# EAGLE library part RASPBERRY-HEADER (library raspberry-header)
PIN HEADER
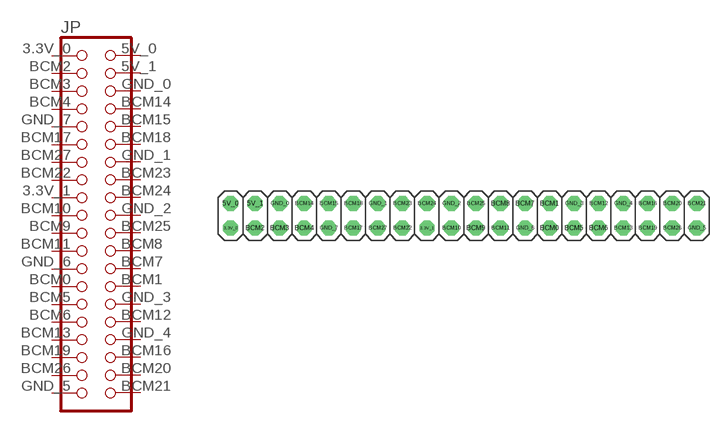
[diagram p0: symbol with the pads of RASPBERRY-HEADER; footprint RASPBERRY-HEADER]

Designator prefix JP

## RASPBERRY-HEADER  [RASPBERRY-HEADER]
3.3V_0  1_3V3  pas
3.3V_1  17_3V3  pas
5V_0  5V_1  pas
5V_1  4_5V5  pas
BCM0  27_BCM0_ID_SD  pas
BCM1  28_BCM1_ID_SC  pas
BCM2  3_BCM2_SDA  pas
BCM3  5_BCM3_SCL  pas
BCM4  7_BCM4_GPCLK0  pas
BCM5  29_BCM5  pas
BCM6  31_BCM6  pas
BCM7  26_BCM7_CE1  pas
BCM8  24_BCM8_CE0  pas
BCM9  21_BCM9_MISO  pas
BCM10  19_BCM10_MOSI  pas
BCM11  23_BCM11  pas
BCM12  32_BCM12_PWM0  pas
BCM13  33_BCM13_PWM1  pas
BCM14  8_BCM14_TXD  pas
BCM15  10_BCM15_RXD  pas
BCM16  36_BCM16  pas
BCM17  11_BCM17  pas
BCM18  12_BCM18_PWM0  pas
BCM19  35_BCM19_MISO  pas
BCM20  38_BCM20_MOSI  pas
BCM21  40_BCM21_SCLK  pas
BCM22  15_BCM22  pas
BCM23  16_BCM23  pas
BCM24  18_BCM24  pas
BCM25  22_BCM25  pas
BCM26  37_BCM26  pas
BCM27  13_BCM27  pas
GND_0  6_GND  pas
GND_1  14_GND  pas
GND_2  20_GND  pas
GND_3  30_GND  pas
GND_4  34_GND  pas
GND_5  39_GND  pas
GND_6  GND  pas
GND_7  9_GND  pas

## Footprint RASPBERRY-HEADER (pad centres in mm)
Raspberry Pi B+ / 2 / 3 Pin Header
drill 1.016 octagon: 3.3V_0 -24.13,-1.27; 3.3V_1 -3.81,-1.27; 5V_0 -24.13,1.27; 5V_1 -21.59,1.27; BCM0 8.89,-1.27; BCM1 8.89,1.27; BCM2 -21.59,-1.27; BCM3 -19.05,-1.27; BCM4 -16.51,-1.27; BCM5 11.43,-1.27; BCM6 13.97,-1.27; BCM7 6.35,1.27; BCM8 3.81,1.27; BCM9 1.27,-1.27; BCM10 -1.27,-1.27; BCM11 3.81,-1.27; BCM12 13.97,1.27; BCM13 16.51,-1.27; BCM14 -16.51,1.27; BCM15 -13.97,1.27; BCM16 19.05,1.27; BCM17 -11.43,-1.27; BCM18 -11.43,1.27; BCM19 19.05,-1.27; BCM20 21.59,1.27; BCM21 24.13,1.27; BCM22 -6.35,-1.27; BCM23 -6.35,1.27; BCM24 -3.81,1.27; BCM25 1.27,1.27; BCM26 21.59,-1.27; BCM27 -8.89,-1.27; GND_0 -19.05,1.27; GND_1 -8.89,1.27; GND_2 -1.27,1.27; GND_3 11.43,1.27; GND_4 16.51,1.27; GND_5 24.13,-1.27; GND_6 6.35,-1.27; GND_7 -13.97,-1.27